# Altium schematic symbol library UM7.SchLib: 1 symbol
Pins are listed as number, name and electrical type; pins without a type are passive.

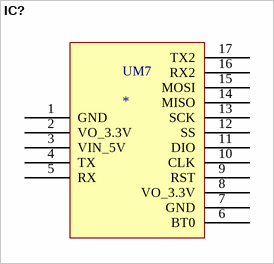
[diagram p0: symbol IC?]

## IC?
designator UM7
pins: 1 GND, 2 VO_3.3V, 3 VIN_5V, 4 TX, 5 RX, 6 BT0, 7 GND, 8 VO_3.3V, 9 RST, 10 CLK, 11 DIO, 12 SS, 13 SCK, 14 MISO, 15 MOSI, 16 RX2, 17 TX2